# EAGLE library part AMBE-3000 (library AMBE-3000)
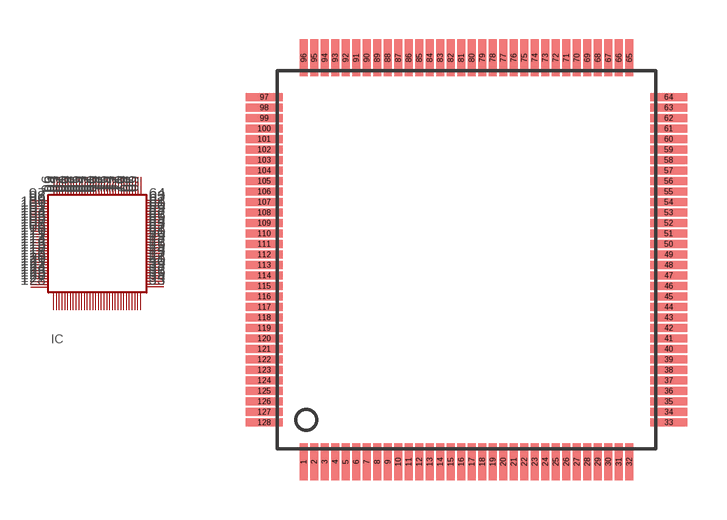
[diagram p0: symbol with the pads of LQFP-128; footprint LQFP-128]

Designator prefix IC

## AMBE-3000LQFP-128  [LQFP-128]
1  3V3  sup
2  IF_SEL0  sup
3  IF_SEL1  sup
4  IF_SEL2  sup
5  DTX_EN  sup
6  SK_EN  sup
7  NS_EN  sup
8  CP_EN  sup
9  CP_SEL  sup
10  VREF_1V  sup
11  VREF_2V  sup
12  GND  sup
13  3V3  sup
14  3V3  sup
15  GND  sup
16  ADCRESEXT  sup
17  GND  sup
18  MCBSP_RXD  sup
19  MCBSP_TXD  sup
20  1V8  sup
21  MCBSP_CLKR  sup
22  MCBSP_FSX  sup
23  MCBSP_CLKX  sup
24  MCBSP_FSR  sup
25  3V3  sup
26  GND  sup
27  SPI_CLK  sup
28  SPI_STE  sup
29  1V8  sup
30  GND  sup
31  SPI_RX_DATA  sup
32  SPI_TX_DATA  sup
33  PPT_DATA0  sup
34  PPT_DATA1  sup
35  PPT_DATA2  sup
36  PPT_DATA3  sup
37  PPT_DATA4  sup
38  PPT_DATA5  sup
39  GND  sup
40  PPT_DATA6  sup
41  PPT_DATA7  sup
42  1V8  sup
43  PKT_RX_WAKE  sup
44  STANDBY  sup
45  IDLE  sup
46  PPT_READ  sup
47  PPT_WRITE  sup
48  PPT_ACK  sup
49  3V3  sup
50  N/C  sup
51  N/C  sup
52  3V3FL  sup
53  GND  sup
54  IOPIN1  sup
55  IOPIN2  sup
56  1V8  sup
57  X2  sup
58  X1/XCLKIN  sup
59  GND  sup
60  CODEC_RESETN  sup
61  RUN  sup
62  GND  sup
63  1V8  sup
64  RTS  sup
65  IOPIN3  sup
66  IOPIN4  sup
67  IOPIN5  sup
68  TX_RQST  sup
69  TX_RDY  sup
70  I2C_DATA  sup
71  I2C-CLK  sup
72  IOPIN6  sup
73  GND  sup
74  1V8  sup
75  STDBY_EN  sup
76  IOPIN7  sup
77  SPI_GENSTE  sup
78  IOPIN8  sup
79  PARITY_EN  sup
80  SPI_FS  sup
81  IOPIN9  sup
82  1V8  sup
83  3V3  sup
84  IOPIN10  sup
85  IOPIN11  sup
86  SPI_CLK_IN  sup
87  N/C  sup
88  GND  sup
89  S_COM_RATE0  sup
90  S_COM_RATE1  sup
91  S_COM_RATE2  sup
92  N/C  sup
93  N/C  sup
94  1V8  sup
95  GND  sup
96  N/C  sup
97  GND  sup
98  N/C  sup
99  N/C  sup
100  N/C  sup
101  IOPIN12  sup
102  1V8  sup
103  GND  sup
104  3V3  sup
105  N/C  sup
106  SPI_WAKE  sup
107  IOPIN13  sup
108  IOPIN14  sup
109  GND  sup
110  1V8  sup
111  UART_TX  sup
112  UART_RX  sup
113  RESETN  sup
114  1V8  sup
115  GND  sup
116  N/C  sup
117  GND  sup
118  3V3  sup
119  ES_EN  sup
120  EC_EN  sup
121  RATE5  sup
122  RATE4  sup
123  RATE3  sup
124  RATE2  sup
125  RATE1  sup
126  RATE0  sup
127  GND  sup
128  GND  sup

## Footprint LQFP-128 (pad centres in mm)
smd 0.3 x 1.4: 1 -6.2,-7.7; 2 -5.8,-7.7; 3 -5.4,-7.7; 4 -5,-7.7; 5 -4.6,-7.7; 6 -4.2,-7.7; 7 -3.8,-7.7; 8 -3.4,-7.7; 9 -3,-7.7; 10 -2.6,-7.7; 11 -2.2,-7.7; 12 -1.8,-7.7; 13 -1.4,-7.7; 14 -1,-7.7; 15 -0.6,-7.7; 16 -0.2,-7.7; 17 0.2,-7.7; 18 0.6,-7.7; 19 1,-7.7; 20 1.4,-7.7; 21 1.8,-7.7; 22 2.2,-7.7; 23 2.6,-7.7; 24 3,-7.7; 25 3.4,-7.7; 26 3.8,-7.7; 27 4.2,-7.7; 28 4.6,-7.7; 29 5,-7.7; 30 5.4,-7.7; 31 5.8,-7.7; 32 6.2,-7.7; 65 6.2,7.7; 66 5.8,7.7; 67 5.4,7.7; 68 5,7.7; 69 4.6,7.7; 70 4.2,7.7; 71 3.8,7.7; 72 3.4,7.7; 73 3,7.7; 74 2.6,7.7; 75 2.2,7.7; 76 1.8,7.7; 77 1.4,7.7; 78 1,7.7; 79 0.6,7.7; 80 0.2,7.7; 81 -0.2,7.7; 82 -0.6,7.7; 83 -1,7.7; 84 -1.4,7.7; 85 -1.8,7.7; 86 -2.2,7.7; 87 -2.6,7.7; 88 -3,7.7; 89 -3.4,7.7; 90 -3.8,7.7; 91 -4.2,7.7; 92 -4.6,7.7; 93 -5,7.7; 94 -5.4,7.7; 95 -5.8,7.7; 96 -6.2,7.7
smd 1.4 x 0.3: 33 7.7,-6.2; 34 7.7,-5.8; 35 7.7,-5.4; 36 7.7,-5; 37 7.7,-4.6; 38 7.7,-4.2; 39 7.7,-3.8; 40 7.7,-3.4; 41 7.7,-3; 42 7.7,-2.6; 43 7.7,-2.2; 44 7.7,-1.8; 45 7.7,-1.4; 46 7.7,-1; 47 7.7,-0.6; 48 7.7,-0.2; 49 7.7,0.2; 50 7.7,0.6; 51 7.7,1; 52 7.7,1.4; 53 7.7,1.8; 54 7.7,2.2; 55 7.7,2.6; 56 7.7,3; 57 7.7,3.4; 58 7.7,3.8; 59 7.7,4.2; 60 7.7,4.6; 61 7.7,5; 62 7.7,5.4; 63 7.7,5.8; 64 7.7,6.2; 97 -7.7,6.2; 98 -7.7,5.8; 99 -7.7,5.4; 100 -7.7,5; 101 -7.7,4.6; 102 -7.7,4.2; 103 -7.7,3.8; 104 -7.7,3.4; 105 -7.7,3; 106 -7.7,2.6; 107 -7.7,2.2; 108 -7.7,1.8; 109 -7.7,1.4; 110 -7.7,1; 111 -7.7,0.6; 112 -7.7,0.2; 113 -7.7,-0.2; 114 -7.7,-0.6; 115 -7.7,-1; 116 -7.7,-1.4; 117 -7.7,-1.8; 118 -7.7,-2.2; 119 -7.7,-2.6; 120 -7.7,-3; 121 -7.7,-3.4; 122 -7.7,-3.8; 123 -7.7,-4.2; 124 -7.7,-4.6; 125 -7.7,-5; 126 -7.7,-5.4; 127 -7.7,-5.8; 128 -7.7,-6.2